# EAGLE library part LTC1406 (library adcLib)
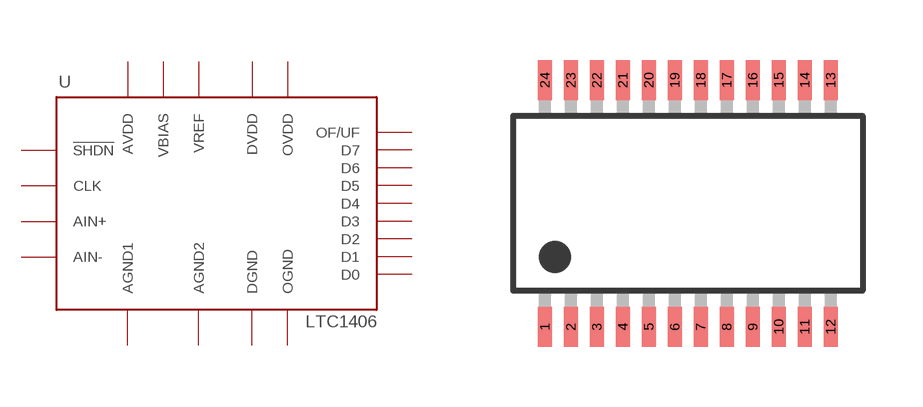
[diagram p5: symbol with the pads of TSSOP24; footprint TSSOP24]

Designator prefix -

## LTC1406  [TSSOP24]
1  OGND  sup
2  OVDD  sup
3  !SHDN
4  VBIAS
5  VREF
6  AGND2  sup
7  AIN+
8  AIN-
9  AVDD  sup
10  AGND1  sup
11  DGND  sup
12  DVDD  sup
15  D0
16  D1
17  D2
18  D3
19  D4
20  D5
21  D6
22  D7
23  OF/UF
24  CLK

## Footprint TSSOP24 (pad centres in mm)
LP Package, 28-Pin TSSOP with Exposed Thermal Pad Source: http://allegromicro.com/datafile/3979.pdf
smd 0.35 x 1: 1 -3.575,-3.087; 2 -2.925,-3.087; 3 -2.275,-3.087; 4 -1.625,-3.087; 5 -0.975,-3.087; 6 -0.325,-3.087; 7 0.325,-3.087; 8 0.975,-3.087; 9 1.625,-3.087; 10 2.275,-3.087; 11 2.925,-3.087; 12 3.575,-3.087; 13 3.575,3.087; 14 2.925,3.087; 15 2.275,3.087; 16 1.625,3.087; 17 0.975,3.087; 18 0.325,3.087; 19 -0.325,3.087; 20 -0.975,3.087; 21 -1.625,3.087; 22 -2.275,3.087; 23 -2.925,3.087; 24 -3.575,3.087